# EAGLE library part MICROSD_PADS (library blinkinlabs)
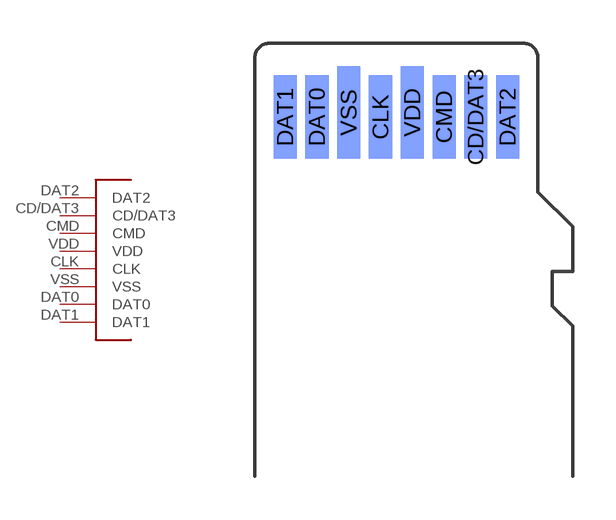
[diagram p4: symbol with the pads of MICROSD_PADS; footprint MICROSD_PADS]

Designator prefix -

## MICROSD_PADSMICROSD  [MICROSD_PADS]
CD/DAT3  CD/DAT3
CLK  CLK
CMD  CMD
DAT0  DAT0
DAT1  DAT1
DAT2  DAT2
VDD  VDD
VSS  VSS

## Footprint MICROSD_PADS (pad centres in mm)
smd 0.8 x 2.9 bottom: CD/DAT3 2.75,0; CLK -0.55,0; CMD 1.65,0; DAT0 -2.75,0; DAT1 -3.85,0; DAT2 3.85,0
smd 0.8 x 3.2 bottom: VDD 0.55,0.15; VSS -1.65,0.15